# EAGLE library part BM1397_MODE0 (library BM1397)
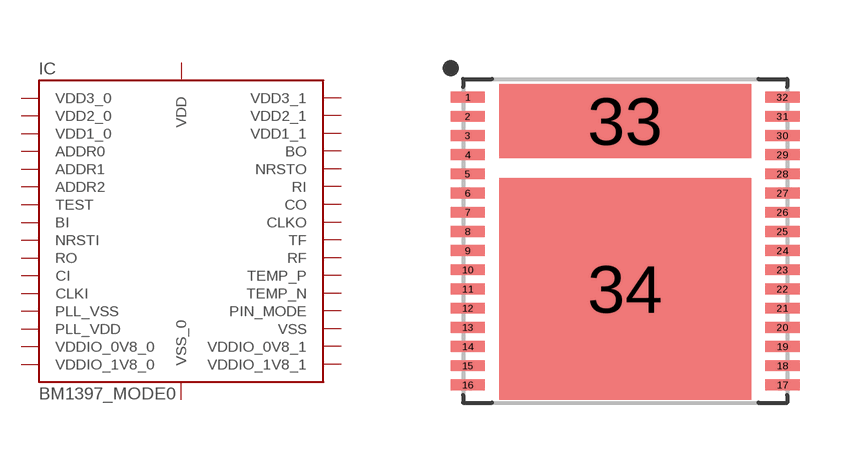
[diagram p0: symbol with the pads of BM1397; footprint BM1397]

Designator prefix IC

## BM1397_MODE0  [BM1397]
1  VDD3_0  pwr
2  VDD2_0  pwr
3  VDD1_0  pwr
4  ADDR0  in
5  ADDR1  in
6  ADDR2  in
7  TEST  pas
8  BI  in
9  NRSTI  in
10  RO  out
11  CI  in
12  CLKI  in
13  PLL_VSS  pwr
14  PLL_VDD  pwr
15  VDDIO_0V8_0  pwr
16  VDDIO_1V8_0  pwr
17  VDDIO_1V8_1  pwr
18  VDDIO_0V8_1  pwr
19  VSS  pwr
20  PIN_MODE  pas
21  TEMP_N  pas
22  TEMP_P  pas
23  RF  pas
24  TF  pas
25  CLKO  out
26  CO  out
27  RI  in
28  NRSTO  out
29  BO  out
30  VDD1_1  pwr
31  VDD2_1  pwr
32  VDD3_1  pwr
33  VDD  pwr
34  VSS_0  pwr

## Footprint BM1397 (pad centres in mm)
smd 0.86 x 0.27: 1 -3.935,3.6; 2 -3.935,3.12; 3 -3.935,2.64; 4 -3.935,2.16; 5 -3.935,1.68; 6 -3.935,1.2; 7 -3.935,0.72; 8 -3.935,0.24; 9 -3.935,-0.24; 10 -3.935,-0.72; 11 -3.935,-1.2; 12 -3.935,-1.68; 13 -3.935,-2.16; 14 -3.935,-2.64; 15 -3.935,-3.12; 16 -3.935,-3.6; 17 3.935,-3.6; 18 3.935,-3.12; 19 3.935,-2.64; 20 3.935,-2.16; 21 3.935,-1.68; 22 3.935,-1.2; 23 3.935,-0.72; 24 3.935,-0.24; 25 3.935,0.24; 26 3.935,0.72; 27 3.935,1.2; 28 3.935,1.68; 29 3.935,2.16; 30 3.935,2.64; 31 3.935,3.12; 32 3.935,3.6
smd 6.3 x 1.85: 33 0,3
smd 6.3 x 5.55: 34 0,-1.2